# EAGLE library part SC1509 (library SC1509)
ARM Microcontrollers - MCU 150MHz clock Dual Arm Cortex-M33 cores 520KB RAM 8KB on-chip OTP storage 7" Reel QFN-60 Source: Datasheet <https://datasheets.raspberrypi.com/rp2350/rp2350-datasheet.pdf>
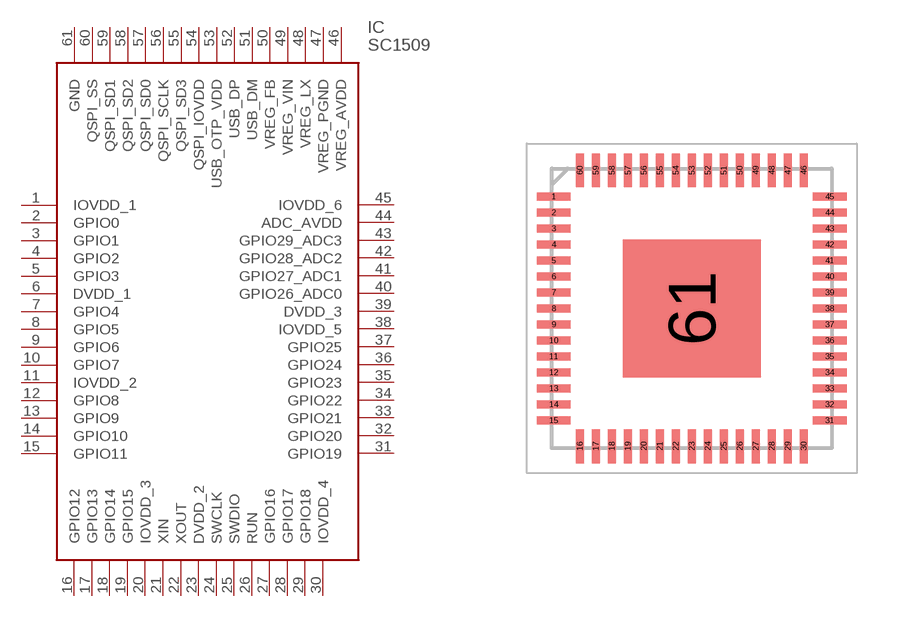
[diagram p0: symbol with the pads of QFN40P700X700X90-61N; footprint QFN40P700X700X90-61N]

Designator prefix IC

## SC1509 (Description: ARM Microcontrollers - MCU 150MHz clock Dual Arm Cortex-M33 cores 520KB RAM 8KB on-chip OTP storage 7" Reel QFN-60; Height: 0.9mm; Manufacturer_Name: RASPBERRY-PI; Manufacturer_Part_Number: SC1509; Mouser_Part_Number: 358-SC1509; Mouser_Price-Stock: https://www.mouser.co.uk/ProductDetail/Raspberry-Pi/SC1509?qs=jcD%2FCkGBYeMjax32yHei3A%3D%3D)  [QFN40P700X700X90-61N]
1  IOVDD_1
2  GPIO0
3  GPIO1
4  GPIO2
5  GPIO3
6  DVDD_1
7  GPIO4
8  GPIO5
9  GPIO6
10  GPIO7
11  IOVDD_2
12  GPIO8
13  GPIO9
14  GPIO10
15  GPIO11
16  GPIO12
17  GPIO13
18  GPIO14
19  GPIO15
20  IOVDD_3
21  XIN
22  XOUT
23  DVDD_2
24  SWCLK
25  SWDIO
26  RUN
27  GPIO16
28  GPIO17
29  GPIO18
30  IOVDD_4
31  GPIO19
32  GPIO20
33  GPIO21
34  GPIO22
35  GPIO23
36  GPIO24
37  GPIO25
38  IOVDD_5
39  DVDD_3
40  GPIO26_ADC0
41  GPIO27_ADC1
42  GPIO28_ADC2
43  GPIO29_ADC3
44  ADC_AVDD
45  IOVDD_6
46  VREG_AVDD
47  VREG_PGND
48  VREG_LX
49  VREG_VIN
50  VREG_FB
51  USB_DM
52  USB_DP
53  USB_OTP_VDD
54  QSPI_IOVDD
55  QSPI_SD3
56  QSPI_SCLK
57  QSPI_SD0
58  QSPI_SD2
59  QSPI_SD1
60  QSPI_SS
61  GND

## Footprint QFN40P700X700X90-61N (pad centres in mm)
60QFN
smd 0.85 x 0.2: 1 -3.45,2.8; 2 -3.45,2.4; 3 -3.45,2; 4 -3.45,1.6; 5 -3.45,1.2; 6 -3.45,0.8; 7 -3.45,0.4; 8 -3.45,0; 9 -3.45,-0.4; 10 -3.45,-0.8; 11 -3.45,-1.2; 12 -3.45,-1.6; 13 -3.45,-2; 14 -3.45,-2.4; 15 -3.45,-2.8; 31 3.45,-2.8; 32 3.45,-2.4; 33 3.45,-2; 34 3.45,-1.6; 35 3.45,-1.2; 36 3.45,-0.8; 37 3.45,-0.4; 38 3.45,0; 39 3.45,0.4; 40 3.45,0.8; 41 3.45,1.2; 42 3.45,1.6; 43 3.45,2; 44 3.45,2.4; 45 3.45,2.8
smd 0.2 x 0.85: 16 -2.8,-3.45; 17 -2.4,-3.45; 18 -2,-3.45; 19 -1.6,-3.45; 20 -1.2,-3.45; 21 -0.8,-3.45; 22 -0.4,-3.45; 23 0,-3.45; 24 0.4,-3.45; 25 0.8,-3.45; 26 1.2,-3.45; 27 1.6,-3.45; 28 2,-3.45; 29 2.4,-3.45; 30 2.8,-3.45; 46 2.8,3.45; 47 2.4,3.45; 48 2,3.45; 49 1.6,3.45; 50 1.2,3.45; 51 0.8,3.45; 52 0.4,3.45; 53 0,3.45; 54 -0.4,3.45; 55 -0.8,3.45; 56 -1.2,3.45; 57 -1.6,3.45; 58 -2,3.45; 59 -2.4,3.45; 60 -2.8,3.45
smd 3.45 x 3.45: 61 0,0